# EAGLE library part RPI_26 (library jt_lib)
RPi GPIO header (26 pin)
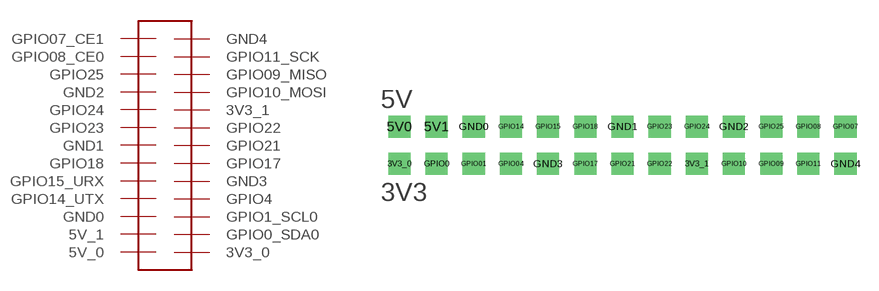
[diagram p1: symbol with the pads of RPI26; footprint RPI26]

Designator prefix -

## RPI_26  [RPI26]
3V3_0  3V3_0
3V3_1  3V3_1
5V0  5V_0  pwr
5V1  5V_1
GND0  GND0
GND1  GND1
GND2  GND2
GND3  GND3
GND4  GND4
GPIO0  GPIO0_SDA0
GPIO01  GPIO1_SCL0
GPIO04  GPIO4
GPIO07  GPIO07_CE1
GPIO08  GPIO08_CE0
GPIO09  GPIO09_MISO
GPIO10  GPIO10_MOSI
GPIO11  GPIO11_SCK
GPIO14  GPIO14_UTX
GPIO15  GPIO15_URX
GPIO17  GPIO17
GPIO18  GPIO18
GPIO21  GPIO21
GPIO22  GPIO22
GPIO23  GPIO23
GPIO24  GPIO24
GPIO25  GPIO25

## Footprint RPI26 (pad centres in mm)
drill 1 square: 3V3_0 -13.97,-1.27; 3V3_1 6.35,-1.27; 5V0 -13.97,1.27; 5V1 -11.43,1.27; GND0 -8.89,1.27; GND1 1.27,1.27; GND2 8.89,1.27; GND3 -3.81,-1.27; GND4 16.51,-1.27; GPIO0 -11.43,-1.27; GPIO01 -8.89,-1.27; GPIO04 -6.35,-1.27; GPIO07 16.51,1.27; GPIO08 13.97,1.27; GPIO09 11.43,-1.27; GPIO10 8.89,-1.27; GPIO11 13.97,-1.27; GPIO14 -6.35,1.27; GPIO15 -3.81,1.27; GPIO17 -1.27,-1.27; GPIO18 -1.27,1.27; GPIO21 1.27,-1.27; GPIO22 3.81,-1.27; GPIO23 3.81,1.27; GPIO24 6.35,1.27; GPIO25 11.43,1.27